# Altium footprint library Hirose.PcbLib: 1 footprints
Each footprint in its own frame and in the unit in brackets; x right, y up, seen from the top. Pads: shape width x height; smd on the part's side, far side on the other; paste and mask are expansions set on the pad; w line width, h text height; cw(c..) or ccw(c..) is an arc to the next point about the centre after c.
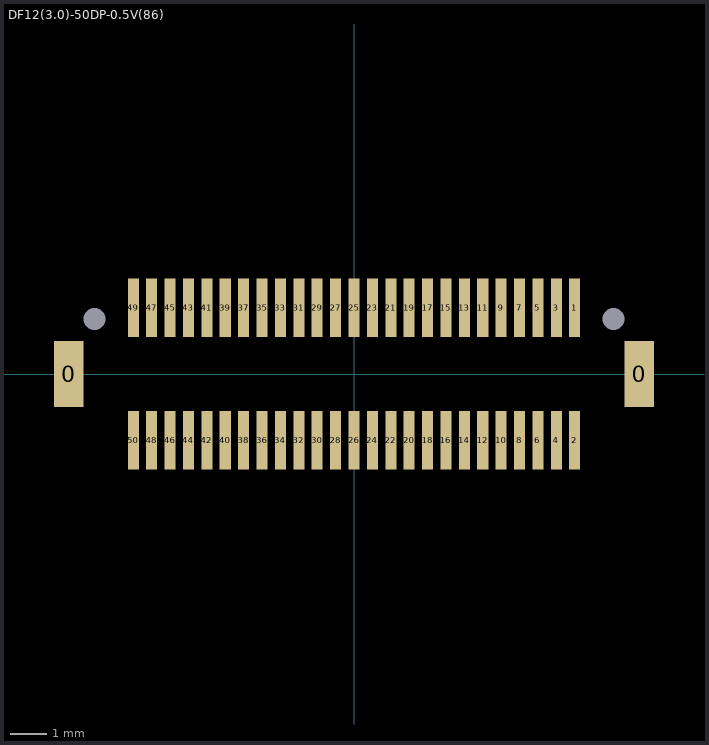
[diagram p0: the footprint, top view; thin cyan lines are the x and y axes]

## DF12(3.0)-50DP-0.5V(86) [mm] "Board-to-board"
height 2.3
pads (54):
  rect 0.8x1.8 smd: 0(-7.75,0) 0(7.75,0)
  round 0 hole 0.6 unplated: 0(-7.05,1.5) 0(7.05,1.5)
  rect 0.3x1.6 smd mask+0.05: 1(6,1.8) 2(6,-1.8) 3(5.5,1.8) 4(5.5,-1.8) 5(5,1.8) 6(5,-1.8) 7(4.5,1.8) 8(4.5,-1.8) 9(4,1.8) 10(4,-1.8) 11(3.5,1.8) 12(3.5,-1.8) 13(3,1.8) 14(3,-1.8) 15(2.5,1.8) 16(2.5,-1.8) 17(2,1.8) 18(2,-1.8) 19(1.5,1.8) 20(1.5,-1.8) 21(1,1.8) 22(1,-1.8) 23(0.5,1.8) 24(0.5,-1.8) 25(0,1.8) 26(0,-1.8) 27(-0.5,1.8) 28(-0.5,-1.8) 29(-1,1.8) 30(-1,-1.8) 31(-1.5,1.8) 32(-1.5,-1.8) 33(-2,1.8) 34(-2,-1.8) 35(-2.5,1.8) 36(-2.5,-1.8) 37(-3,1.8) 38(-3,-1.8) 39(-3.5,1.8) 40(-3.5,-1.8) 41(-4,1.8) 42(-4,-1.8) 43(-4.5,1.8) 44(-4.5,-1.8) 45(-5,1.8) 46(-5,-1.8) 47(-5.5,1.8) 48(-5.5,-1.8) 49(-6,1.8) 50(-6,-1.8)
3D body "DF12(3.0)-50DP-0.5V.stp": height 2.3, standoff -0.6, extent -7.8,-2.3 7.8,2.3